# Altium schematic symbol library WE-PLC.SchLib: 2 symbols
Pins are listed as number, name and electrical type; pins without a type are passive.

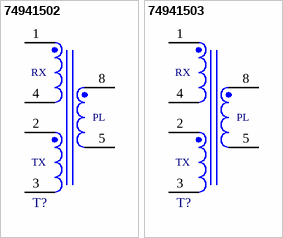
[diagram p0: symbols 74941502 to 74941503]

## 74941502
designator T?  (value not drawn)
WE-PLC Transformer, SMT, 20uH, 4500V (AC); Manufacturer: Wurth Elektronik; Insulation Resistance: 10MOhm; Leakage Inductance: 0.2uH; Manufacturer Part Number: 74941502; Category: Signal Transformers; Match Code: WE-PLC; ComponentLink1Description: Website Link; ComponentLink1URL: https://www.we-online.com/redexpert/article/74941502?ad; ComponentLink2Description: Datasheet Link; ComponentLink2URL: https://www.we-online.com/redexpert/spec/74941502?ad; Mount: Surface Mount; Operating Temperature Max: 125°C; Operating Temperature Min: -40°C; Packaging: Tape and Reel; Length: 9.9mm; Width: 13.6mm; Height: 7.4mm; Inductance: 20uH; Insulation Test Voltage: 4500V (AC)
footprint 7494150x
pins: 1, 2, 3, 4, 5, 8
text: RX; PL; TX

## 74941503
designator T?  (value not drawn)
WE-PLC Transformer, SMT, 20uH, 4500V (AC); Manufacturer: Wurth Elektronik; Insulation Resistance: 10MOhm; Leakage Inductance: 0.05uH; Manufacturer Part Number: 74941503; Category: Signal Transformers; Match Code: WE-PLC; ComponentLink1Description: Website Link; ComponentLink1URL: https://www.we-online.com/redexpert/article/74941503?ad; ComponentLink2Description: Datasheet Link; ComponentLink2URL: https://www.we-online.com/redexpert/spec/74941503?ad; Mount: Surface Mount; Operating Temperature Max: 125°C; Operating Temperature Min: -40°C; Packaging: Tape and Reel; Length: 9.9mm; Width: 13.6mm; Height: 7.4mm; Inductance: 20uH; Insulation Test Voltage: 4500V (AC)
footprint 7494150x
pins: 1, 2, 3, 4, 5, 8
text: RX; PL; TX